# Altium footprint library PcbLib1.PcbLib: 329 footprints (part 11 of 21)
Each footprint in its own frame and in the unit in brackets; x right, y up, seen from the top. Pads: shape width x height; smd on the part's side, far side on the other; paste and mask are expansions set on the pad; w line width, h text height; cw(c..) or ccw(c..) is an arc to the next point about the centre after c.
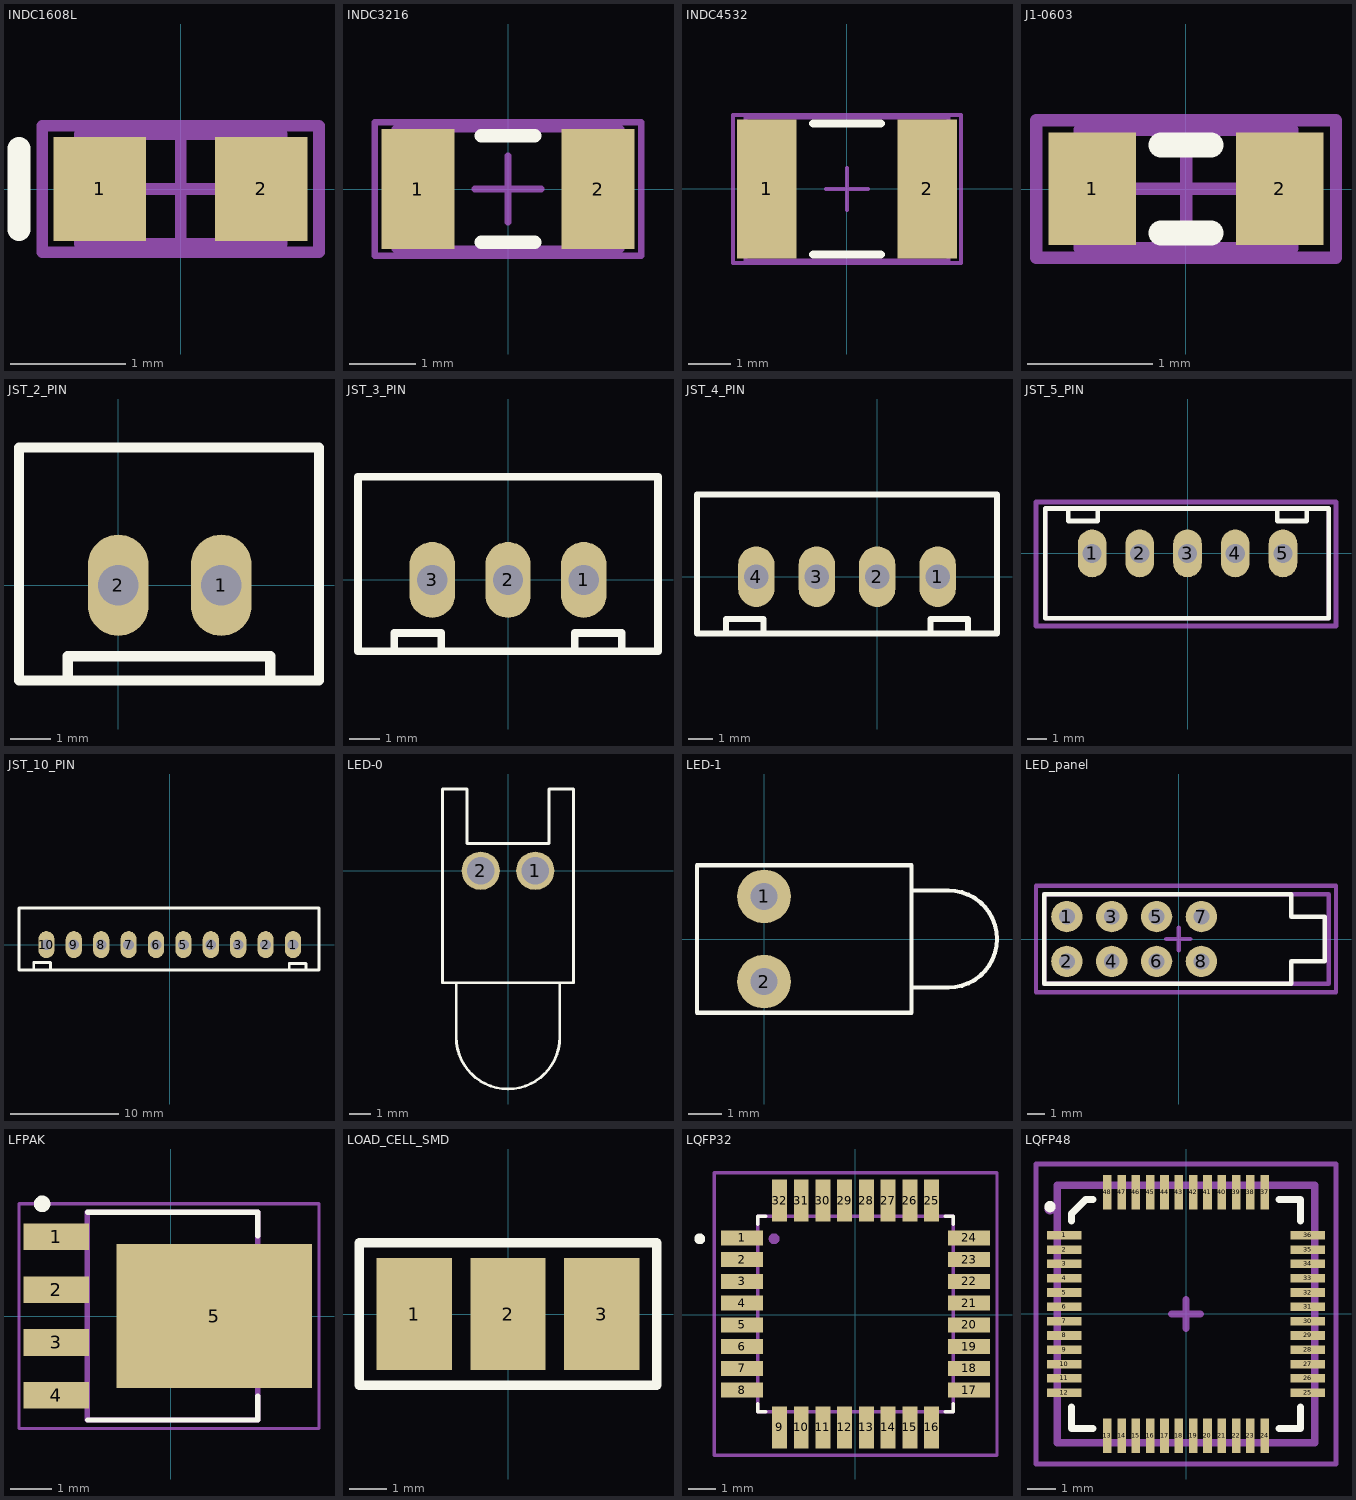
[diagram p10: the footprints below, top view; thin cyan lines are the x and y axes]

## INDC1608L [mm] "Chip Inductor, Body 1.6x0.8mm, IPC High Density"
height 0.55
pads (2):
  rect 0.8x0.9 smd: 1(-0.7,0) 2(0.7,0)
Top Overlay:
  lines w0.2: -1.4,-0.35 -1.4,0.35
Mechanical 13:
  lines w0.1: -0.875,-0.475 -0.875,0.475 0.875,0.475 0.875,-0.475 -0.875,-0.475
Mechanical 15:
  lines w0.1: -0.475,0 0.475,0 ; 0,-0.475 0,0.475 ; -1.2,-0.55 -1.2,0.55 1.2,0.55 1.2,-0.55 -1.2,-0.55
3D body: height 0.55, standoff 0, extent -0.875,-0.475 0.875,0.475

## INDC3216 [mm] "Chip Inductor, Body 3.2x1.6mm, IPC High Density"
height 0.55
pads (2):
  rect 1.1x1.8 smd: 1(-1.35,0) 2(1.35,0)
Top Overlay:
  lines w0.2: -0.4,-0.8 0.4,-0.8 ; -0.4,0.8 0.4,0.8
Mechanical 13:
  lines w0.1: -1.7,-0.9 1.7,-0.9 1.7,0.9 -1.7,0.9 -1.7,-0.9
Mechanical 15:
  lines w0.1: -0.5,0 0.5,0 ; 0,-0.5 0,0.5 ; -2,-1 2,-1 2,1 -2,1 -2,-1
3D body: height 0.55, standoff 0, extent -1.7,-0.9 1.7,0.9

## INDC4532 [mm] "Chip Inductor, Body 4.5x3.2mm, IPC High Density"
height 0.55
pads (2):
  rect 1.4x3.3 smd: 1(-1.9,0) 2(1.9,0)
Top Overlay:
  lines w0.2: -0.8,-1.55 0.8,-1.55 ; -0.8,1.55 0.8,1.55
Mechanical 13:
  lines w0.1: -2.4,-1.7 2.4,-1.7 2.4,1.7 -2.4,1.7 -2.4,-1.7
Mechanical 15:
  lines w0.1: -0.5,0 0.5,0 ; 0,-0.5 0,0.5 ; -2.7,-1.75 2.7,-1.75 2.7,1.75 -2.7,1.75 -2.7,-1.75
3D body: height 0.55, standoff 0, extent -2.4,-1.7 2.4,1.7

## J1-0603 [mm] "Chip Resistor, Body 1.6x0.8mm, IPC High Density"
height 0.9
pads (2):
  rect 0.7x0.9 smd: 1(-0.75,0) 2(0.75,0)
Top Overlay:
  lines w0.2: -0.2,-0.35 0.2,-0.35 ; -0.2,0.35 0.2,0.35
Mechanical 13:
  lines w0.1: -0.85,-0.475 0.85,-0.475 0.85,0.475 -0.85,0.475 -0.85,-0.475
Mechanical 15:
  lines w0.1: -0.475,0 0.475,0 ; 0,-0.475 0,0.475 ; -1.2,-0.55 1.2,-0.55 1.2,0.55 -1.2,0.55 -1.2,-0.55
3D body: height 0.9, standoff 0, extent -0.85,-0.475 0.85,0.475

## JST_2_PIN [mm]
pads (2):
  oval 1.5x2.5 hole 1: 1(2.54,0) 2(0,0)
Top Overlay:
  lines w0.254: -1.25,-2.35 -1.25,-1.75 3.75,-1.75 3.75,-2.35 ; -2.45,-2.35 -2.45,3.4 4.95,3.4 4.95,-2.35 -2.45,-2.35
3D body "Connecteur JST 2 Pin.step": height 7, standoff -3.4, extent -2.43,-2.418 4.97,3.332

## JST_3_PIN [mm]
pads (3):
  oval 1.5x2.5 hole 1: 1(2.5,0) 2(0,0) 3(-2.5,0)
Top Overlay:
  lines w0.254: -3.75,-2.35 -3.75,-1.75 -2.2,-1.75 -2.2,-2.35 ; 2.2,-2.35 2.2,-1.75 3.75,-1.75 3.75,-2.35 ; -4.95,-2.35 4.95,-2.35 4.95,3.4 -4.95,3.4 -4.95,-2.35
3D body "JST-b3b-xh-a_.STEP": height 7, standoff -3.4, extent -4.95,-2.35 4.95,3.4

## JST_4_PIN [mm]
pads (4):
  oval 1.5x2.5 hole 1: 1(2.5,0) 2(0,0) 3(-2.5,0) 4(-5,0)
Top Overlay:
  lines w0.254: -6.25,-2.35 -6.25,-1.75 -4.7,-1.75 -4.7,-2.35 ; 2.2,-2.35 2.2,-1.75 3.75,-1.75 3.75,-2.35 ; -7.45,-2.35 -7.45,3.4 4.95,3.4 4.95,-2.35 -7.45,-2.35
3D body "jst-b4b-xh-a-1_.STEP": height 7, standoff -3.4, extent -7.45,-2.35 4.95,3.4

## JST_5_PIN [mm]
pads (5):
  oval 1.5x2.5 hole 1: 1(-5,0) 2(-2.5,0) 3(0,0) 4(2.5,0) 5(5,0)
Top Overlay:
  lines w0.254: -6.25,2.35 -6.25,1.7 -4.7,1.7 -4.7,2.35 ; 4.7,2.3 4.7,1.7 6.25,1.7 6.25,2.3 ; -7.45,-3.4 -7.45,2.35 7.4,2.35 7.4,-3.4 -7.45,-3.4
Mechanical 13:
  lines w0.254: -7.45,-3.4 7.4,-3.4 7.4,2.35 -7.45,2.35 -7.45,-3.4
Mechanical 15:
  lines w0.254: -7.938,-3.81 7.779,-3.81 7.779,2.699 -7.938,2.699 -7.938,-3.81
3D body "User Library-JST B5B-XH-A.step": height 7, standoff -3.4, extent -7.44,-3.345 7.46,2.405

## JST_10_PIN [mm]
pads (10):
  oval 1.5x2.5 hole 1: 1(11.43,0) 2(8.89,0) 3(6.35,0) 4(3.81,0) 5(1.27,0) 6(-1.27,0) 7(-3.81,0) 8(-6.35,0) 9(-8.89,0) 10(-11.43,0)
Top Overlay:
  lines w0.254: -12.6,-2.251 -12.6,-1.651 -11.05,-1.651 -11.05,-2.251 ; 11.09,-2.35 11.09,-1.75 12.64,-1.75 12.64,-2.35 ; -13.97,-2.35 13.84,-2.35 13.84,3.4 -13.97,3.4 -13.97,-2.35

## LED-0 [mil] "LED; 2 Leads"
pads (2):
  round 70 hole 50: 1(50,0) 2(-50,0)
Top Overlay:
  lines w5: -95,-205 -95,-305 ccw(c0,-305) 95,-305 95,-205 ; -120,-205 120,-205 120,150 75,150 75,50 -75,50 -75,150 -120,150 -120,-205

## LED-1 [mm] "LED; 2 Leads"
pads (2):
  round 1.6 hole 0.8: 1(0,1.27) 2(0,-1.27)
Top Overlay:
  lines w0.127: 4.4,-1.45 5.5,-1.45 ccw(c5.5,0) 5.5,1.45 4.4,1.45 ; -2,-2.2 4.4,-2.2 4.4,2.2 -2,2.2 -2,-2.2

## LED_panel [mil]
pads (8):
  round 70 hole 35.43: 1(-250,50) 2(-250,-50) 3(-150,50) 4(-150,-50) 5(-50,50) 6(-50,-50) 7(50,50) 8(50,-50)
Top Overlay:
  lines w10: -300,-100 -300,100 250,100 250,50 325,50 325,-50 250,-50 250,-100 -300,-100
Mechanical 13:
  lines w10: -300,-100 333.9,-100 333.9,100 ; -300,-100 -300,-100 ; -300,-100 -300,100 333.89,100 ; 333.89,100 333.9,100
Mechanical 15:
  lines w10: -28.3,0 25,0 ; 0,-25 0,25 ; -318.75,-118.75 350,-118.75 350,118.75 -318.75,118.75 -318.75,-118.75
3D body "914CK.STEP": height 471.22, standoff -119.33, extent -303.9,-100 333.9,100

## LFPAK [mm]
pads (5):
  rect 1.57x0.64 smd: 1(-2.75,1.905) 2(-2.75,0.635) 3(-2.75,-0.635) 4(-2.75,-1.905)
  rect 4.7x3.47 smd: 5(1.05,0)
Top Overlay:
  circle w0.2: c-3.091,2.7 r0.1
  lines w0.127: -2.001,-2.5 2.099,-2.5 2.099,-1.93 ; -2.001,2.5 2.099,2.5 2.099,1.93
Mechanical 13:
  lines w0.127: -2.006,-2.5 -2.006,2.5 ; -2.006,-2.5 2.094,-2.5 ; -2.006,-2.5 2.094,-2.5 ; -2.006,-2.5 -2.006,2.5 ; -2.006,2.5 2.094,2.5 ; -2.006,2.5 2.094,2.5 ; 2.094,-2.5 2.094,2.5 ; 2.094,-2.5 2.094,2.5
Mechanical 15:
  lines w0.076: -0.318,0 0.318,0 ; 0,-0.318 0,0.318 ; -3.646,-2.7 3.569,-2.7 3.569,2.7 -3.646,2.7 -3.646,-2.7
3D body "User Library-LFPAK.STEP": height 1.02, standoff -0.08, extent -3.3,-2.5 3.3,2.5

## LOAD_CELL_SMD [mm]
pads (3):
  rect 2x3 smd: 1(-2.5,0) 2(0,0) 3(2.5,0)
Top Overlay:
  lines w0.254: -3.969,-1.905 -3.969,1.905 3.969,1.905 3.969,-1.905 -3.969,-1.905

## LQFP32 [mm]
pads (32):
  rect 1.56x0.55 smd: 1(-4.173,2.821) 2(-4.173,2.021) 3(-4.173,1.221) 4(-4.173,0.421) 5(-4.173,-0.379) 6(-4.173,-1.179) 7(-4.173,-1.979) 8(-4.173,-2.779) 17(4.187,-2.779) 18(4.187,-1.979) 19(4.187,-1.179) 20(4.187,-0.379) 21(4.187,0.421) 22(4.187,1.221) 23(4.187,2.021) 24(4.187,2.821)
  rect 0.55x1.56 smd: 9(-2.793,-4.159) 10(-1.993,-4.159) 11(-1.193,-4.159) 12(-0.393,-4.159) 13(0.407,-4.159) 14(1.207,-4.159) 15(2.007,-4.159) 16(2.807,-4.159) 25(2.807,4.201) 26(2.007,4.201) 27(1.207,4.201) 28(0.407,4.201) 29(-0.393,4.201) 30(-1.193,4.201) 31(-1.993,4.201) 32(-2.793,4.201)
Top Overlay:
  circle w0.2: c-5.733,2.791 r0.1
  lines w0.127: -3.593,-3.279 -3.593,-3.579 -3.293,-3.579 ; -3.593,3.321 -3.593,3.621 -3.293,3.621 ; 3.307,-3.579 3.607,-3.579 3.607,-3.279 ; 3.307,3.621 3.607,3.621 3.607,3.321
Mechanical 4:
  circle w0.2: c-2.993,2.791 r0.1
  circle w0.2: c-2.993,2.791 r0.1
  lines w0.127: -3.593,-3.579 3.607,-3.579 ; -3.593,-3.579 -3.593,3.621 ; -3.593,-3.579 3.607,-3.579 ; -3.593,-3.579 -3.593,3.621 ; -3.593,3.621 3.607,3.621 ; -3.593,3.621 3.607,3.621 ; 3.607,-3.579 3.607,3.621 ; 3.607,-3.579 3.607,3.621
Mechanical 15:
  lines w0.127: -5.203,-5.189 -5.203,5.231 5.217,5.231 5.217,-5.189 -5.203,-5.189
3D body "User Library-LQFP32.STEP": height 1.63, standoff -0.09, extent -4.5,-4.5 4.5,4.5

## LQFP48 [mm]
pads (48):
  rect 1.2x0.3 smd: 1(-4.25,2.75) 2(-4.25,2.25) 3(-4.25,1.75) 4(-4.25,1.25) 5(-4.25,0.75) 6(-4.25,0.25) 7(-4.25,-0.25) 8(-4.25,-0.75) 9(-4.25,-1.25) 10(-4.25,-1.75) 11(-4.25,-2.25) 12(-4.25,-2.75) 25(4.25,-2.75) 26(4.25,-2.25) 27(4.25,-1.75) 28(4.25,-1.25) 29(4.25,-0.75) 30(4.25,-0.25) 31(4.25,0.25) 32(4.25,0.75) 33(4.25,1.25) 34(4.25,1.75) 35(4.25,2.25) 36(4.25,2.75)
  rect 0.3x1.2 smd: 13(-2.75,-4.25) 14(-2.25,-4.25) 15(-1.75,-4.25) 16(-1.25,-4.25) 17(-0.75,-4.25) 18(-0.25,-4.25) 19(0.25,-4.25) 20(0.75,-4.25) 21(1.25,-4.25) 22(1.75,-4.25) 23(2.25,-4.25) 24(2.75,-4.25) 37(2.75,4.25) 38(2.25,4.25) 39(1.75,4.25) 40(1.25,4.25) 41(0.75,4.25) 42(0.25,4.25) 43(-0.25,4.25) 44(-0.75,4.25) 45(-1.25,4.25) 46(-1.75,4.25) 47(-2.25,4.25) 48(-2.75,4.25)
Top Overlay:
  lines w0.254: -4.75,3.679 cw(c-4.75,3.75) -4.736,3.68 ; -4,-3.25 -4,-4 -3.25,-4 ; -4,3.25 -4,3.5 -3.5,4 -3.25,4 ; 3.25,-4 4,-4 4,-3.25 ; 3.25,4 4,4 4,3.25
Mechanical 13:
  lines w0.254: -4.5,-4.5 -4.5,4.5 4.5,4.5 4.5,-4.5 -4.5,-4.5
Mechanical 15:
  lines w0.178: -5.239,-5.239 5.239,-5.239 5.239,5.238 -5.239,5.238 -5.239,-5.239
  lines w0.254: -4.75,3.608 cw(c-4.75,3.679) -4.736,3.61 ; -0.5,0 0.5,0 ; 0,-0.5 0,0.5
3D body "User Library-LQFP32.STEP": height 1.63, standoff -0.09, extent -4.5,-4.5 4.5,4.5
3D body: height 0.25, standoff 0, extent 1.75,1.5 1.75,1.5
3D body "User Library-LQFP48.STEP": height 1.42, standoff -0.08, extent -4.5,-4.5 4.5,4.5